# EAGLE library part LMH6560 (library Traficon)
Quad, High-Speed, Closed-Loop Buffer
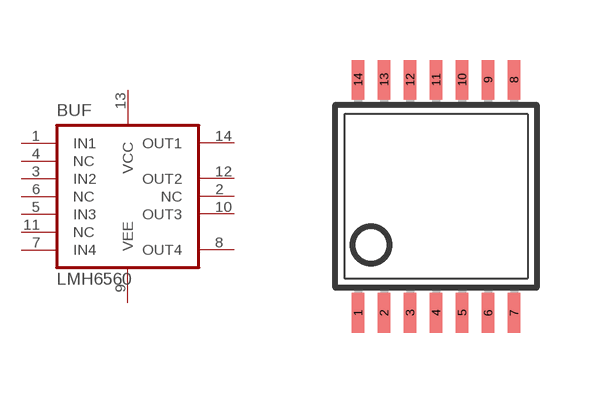
[diagram p104: symbol with the pads of TSSOP14; footprint TSSOP14]

Designator prefix BUF

## LMH6560MT  [TSSOP14]
1  IN1
2  NC
3  IN2
4  NC
5  IN3
6  NC
7  IN4
8  OUT4
9  VEE
10  OUT3
11  NC
12  OUT2
13  VCC
14  OUT1

## Footprint TSSOP14 (pad centres in mm)
Thin Shrink Small Outline Plastic 14 MAX3223-MAX3243.pdf
smd 0.305 x 0.991: 1 -1.95,-2.918; 2 -1.3,-2.918; 3 -0.65,-2.918; 4 0,-2.918; 5 0.65,-2.918; 6 1.3,-2.918; 7 1.95,-2.918; 8 1.95,2.918; 9 1.3,2.918; 10 0.65,2.918; 11 0,2.918; 12 -0.65,2.918; 13 -1.3,2.918; 14 -1.95,2.918